# Altium schematic symbol library VFD.SchLib: 1 symbol
Pins are listed as number, name and electrical type; pins without a type are passive.

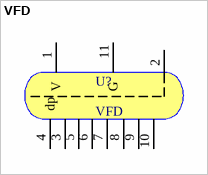
[diagram p0: symbol VFD]

## VFD
designator U?
footprint IV-11
pins: 1 V, 2, 3 c, 4 dp, 5 e, 6 f, 7 g, 8 a, 9 b, 10 c, 11 G